# Altium schematic symbol library XC6206P182MR.SchLib: 1 symbol
Pins are listed as number, name and electrical type; pins without a type are passive.

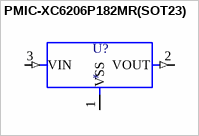
[diagram p0: symbol PMIC-XC6206P182MR(SOT23)]

## PMIC-XC6206P182MR(SOT23)
designator U?
310030016; MF: {'manufacturer': u'Torex'}; MP: PMIC-XC6206P182MR(SOT23); Value: *; Availability: Unavailable; Price: None; Package: None
footprint SOT-23
pins: 1 VSS (power), 2 VOUT (out), 3 VIN (in)